# Altium schematic symbol library kondensatory.SchLib: 1 symbol
Pins are listed as number, name and electrical type; pins without a type are passive.

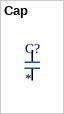
[diagram p0: symbol Cap]

## Cap
designator C?
Tolerance: *; Package: 0805; Value: *; Part number: *; Pin count: 2; Manufacterer: *; Footprint type: SMD
footprint C0805
pins: 1, 2